# EAGLE library part 2,5MSF*06 (library Lumberg)
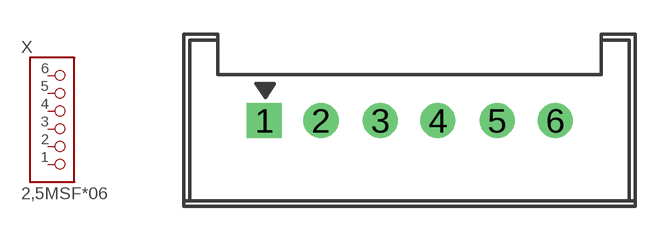
[diagram p2: symbol with the pads of 2,5MSF06; footprint 2,5MSF06]

Designator prefix X

## 2,5MSF06  [2,5MSF06]
1  1  pas
2  2  pas
3  3  pas
4  4  pas
5  5  pas
6  6  pas

## Footprint 2,5MSF06 (pad centres in mm)
drill 1 pad 1.524 square: 1 -6.31,0
drill 1 pad 1.524: 2 -3.85,0; 3 -1.27,0; 4 1.23,0; 5 3.81,0; 6 6.35,0